# Altium footprint library HF102F.PcbLib: 2 footprints
Each footprint in its own frame and in the unit in brackets; x right, y up, seen from the top. Pads: shape width x height; smd on the part's side, far side on the other; paste and mask are expansions set on the pad; w line width, h text height; cw(c..) or ccw(c..) is an arc to the next point about the centre after c.
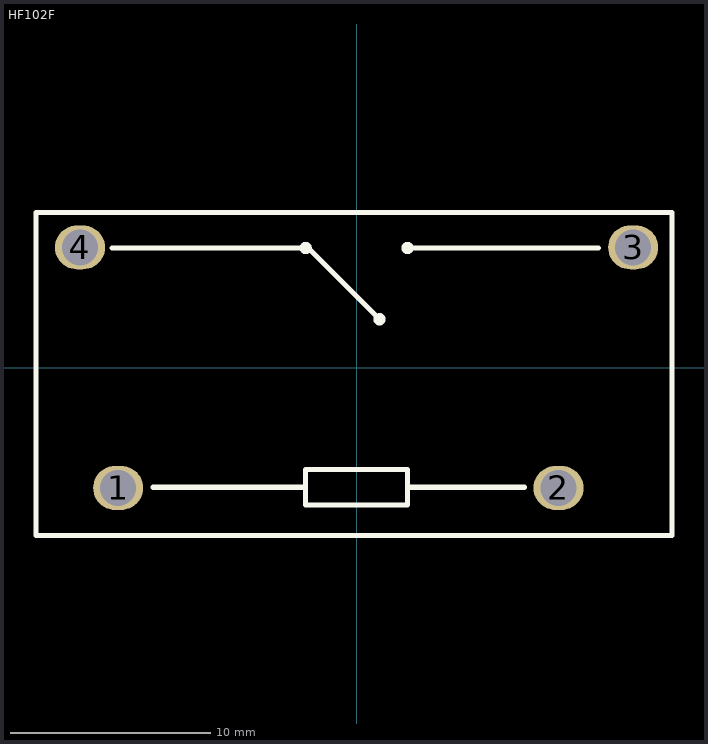
[diagram p0: the footprints below, top view; thin cyan lines are the x and y axes]

## HF102F [mm] "12V继电器"
pads (4):
  oval 2.5x2.2 hole 1.8: 1(-11.895,-6) 2(10.076,-6) 3(13.8,6) 4(-13.8,6)
Top Overlay:
  circle w0.254: c-2.54,5.969 r0.18
  circle w0.254: c1.143,2.413 r0.18
  circle w0.254: c2.54,5.969 r0.18
  lines w0.254: -12.192,5.969 -2.54,5.969 -2.413,5.969 1.143,2.413 ; -10.16,-5.969 -2.54,-5.969 ; 2.54,-5.969 8.382,-5.969 ; 2.54,5.969 12.065,5.969 ; -2.54,-5.969 -2.54,-5.08 2.54,-5.08 2.54,-6.858 -2.54,-6.858 -2.54,-5.969 ; -16.002,-8.382 15.748,-8.382 15.748,7.747 -16.002,7.747 -16.002,-8.382

## PCBComponent_1 [mm]